# Altium integrated library PCB_Project.IntLib: 24 symbols
Pins are listed as number, name and electrical type; pins without a type are passive.

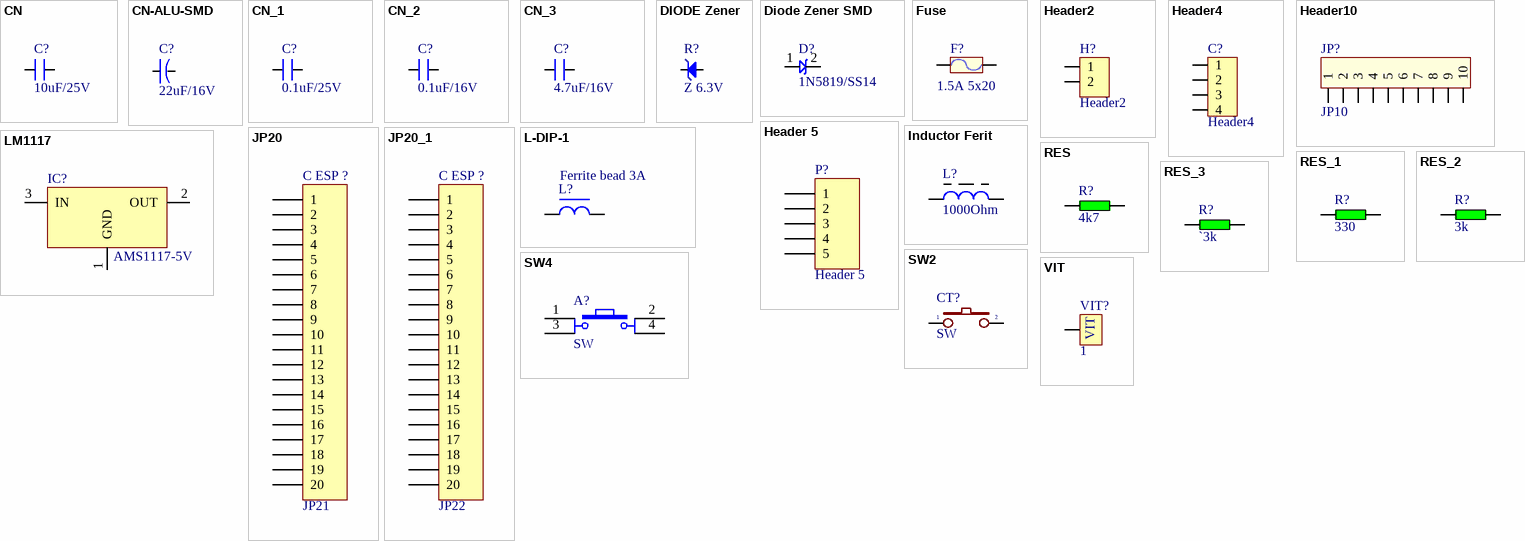
[diagram p0: symbols CN to VIT]

## CN
designator C?, comment 10uF/25V
Value: 33pF
footprint CN1.5
footprint CN1
footprint CN2.5 (Tu pin to pin 250mil)
footprint CN3 (Cap np W 0.3)
footprint CN-SMD-0603
footprint CN-SMD-0805
footprint CN-SMD-0402
footprint CN-SMD-1206
footprint CN-SMD-2520 (TOKO INDUCTOR DFE252012 SERIES)
footprint CN-SMD-3225 (Chip Capacitor, Body 3.2x2.5mm, IPC Medium Density)
footprint CN2-T
footprint CN2-G
footprint CN0.8
footprint CN1-TA
footprint CN2-B
footprint CN2-LT
footprint CN2-O
footprint CN2-R
footprint CN2.5-BR (Tu pin to pin 250mil)
footprint CN2.5-R (Tu pin to pin 250mil)
footprint CN2.5-RV (Tu pin to pin 250mil)
footprint CN3.5 (Cap np W 0.3)
footprint CN4
footprint CN7 (Cap np W 0.3)
footprint CN3-B (Cap np W 0.3)
footprint CN7-B (Cap np W 0.3)
footprint CN7-N (Cap np W 0.3)
footprint CN7-Y (Cap np W 0.3)
footprint CN15 (Cap np W 0.3)
footprint Tu 0805 (Compoment SMD 80x50mil)
footprint CN-SMD-0805
pins: 1, 2

## CN-ALU-SMD
designator C?, comment 22uF/16V
Polarized Capacitor (Axial); Published: 8-Jun-2000; LatestRevisionDate: 17-Jul-2002; LatestRevisionNote: Re-released for DXP Platform.; PackageReference: POLAR0.8; Publisher: Altium Limited
footprint CAP-ALU-SMD-4.5x5x1.4
footprint CAP-ALU-SMD-5x5.5x1.4
footprint CAP-ALU-SMD-5.5x5.5
footprint CAP-ALU-SMD-6.3x7.7x2.2
footprint CAP-ALU-SMD-C
footprint CAP-ALU-SMD-D
footprint CAP-ALU-SMD-F
footprint CAP-ALU-SMD-G
footprint CAP-ALU-SMD-H
footprint CAP-ALU-SMD-J
footprint CAP-ALU-SMD-K
footprint CAP-ALU-SMD-5.5x5.5
pins: 1, 2
1 alternate drawing of the same symbol

## CN_1
designator C?, comment 0.1uF/25V
Value: 33pF
footprint CN1.5
footprint CN1
footprint CN2.5 (Tu pin to pin 250mil)
footprint CN3 (Cap np W 0.3)
footprint CN-SMD-0603
footprint CN-SMD-0805
footprint CN-SMD-0402
footprint CN-SMD-1206
footprint CN-SMD-2520 (TOKO INDUCTOR DFE252012 SERIES)
footprint CN-SMD-3225 (Chip Capacitor, Body 3.2x2.5mm, IPC Medium Density)
footprint CN2-T
footprint CN2-G
footprint CN0.8
footprint CN1-TA
footprint CN2-B
footprint CN2-LT
footprint CN2-O
footprint CN2-R
footprint CN2.5-BR (Tu pin to pin 250mil)
footprint CN2.5-R (Tu pin to pin 250mil)
footprint CN2.5-RV (Tu pin to pin 250mil)
footprint CN3.5 (Cap np W 0.3)
footprint CN4
footprint CN7 (Cap np W 0.3)
footprint CN3-B (Cap np W 0.3)
footprint CN7-B (Cap np W 0.3)
footprint CN7-N (Cap np W 0.3)
footprint CN7-Y (Cap np W 0.3)
footprint CN15 (Cap np W 0.3)
footprint Tu 0805 (Compoment SMD 80x50mil)
footprint CN-SMD-0805
pins: 1, 2

## CN_2
designator C?, comment 0.1uF/16V
Value: 33pF
footprint CN1.5
footprint CN1
footprint CN2.5 (Tu pin to pin 250mil)
footprint CN3 (Cap np W 0.3)
footprint CN-SMD-0603
footprint CN-SMD-0805
footprint CN-SMD-0402
footprint CN-SMD-1206
footprint CN-SMD-2520 (TOKO INDUCTOR DFE252012 SERIES)
footprint CN-SMD-3225 (Chip Capacitor, Body 3.2x2.5mm, IPC Medium Density)
footprint CN2-T
footprint CN2-G
footprint CN0.8
footprint CN1-TA
footprint CN2-B
footprint CN2-LT
footprint CN2-O
footprint CN2-R
footprint CN2.5-BR (Tu pin to pin 250mil)
footprint CN2.5-R (Tu pin to pin 250mil)
footprint CN2.5-RV (Tu pin to pin 250mil)
footprint CN3.5 (Cap np W 0.3)
footprint CN4
footprint CN7 (Cap np W 0.3)
footprint CN3-B (Cap np W 0.3)
footprint CN7-B (Cap np W 0.3)
footprint CN7-N (Cap np W 0.3)
footprint CN7-Y (Cap np W 0.3)
footprint CN15 (Cap np W 0.3)
footprint CN-SMD-0805
pins: 1, 2

## CN_3
designator C?, comment 4.7uF/16V
Value: 33pF
footprint CN1.5
footprint CN1
footprint CN2.5 (Tu pin to pin 250mil)
footprint CN3 (Cap np W 0.3)
footprint CN-SMD-0603
footprint CN-SMD-0805
footprint CN-SMD-0402
footprint CN-SMD-1206
footprint CN-SMD-2520 (TOKO INDUCTOR DFE252012 SERIES)
footprint CN-SMD-3225 (Chip Capacitor, Body 3.2x2.5mm, IPC Medium Density)
footprint CN2-T
footprint CN2-G
footprint CN0.8
footprint CN1-TA
footprint CN2-B
footprint CN2-LT
footprint CN2-O
footprint CN2-R
footprint CN2.5-BR (Tu pin to pin 250mil)
footprint CN2.5-R (Tu pin to pin 250mil)
footprint CN2.5-RV (Tu pin to pin 250mil)
footprint CN3.5 (Cap np W 0.3)
footprint CN4
footprint CN7 (Cap np W 0.3)
footprint CN3-B (Cap np W 0.3)
footprint CN7-B (Cap np W 0.3)
footprint CN7-N (Cap np W 0.3)
footprint CN7-Y (Cap np W 0.3)
footprint CN15 (Cap np W 0.3)
footprint CN-SMD-0805
pins: 1, 2

## DIODE Zener
designator R?, comment Z 6.3V
Zenner 4.8V
footprint DIO-0.5A-SMALL (Diode muoi, W 80mil, L 300mil)
footprint DIO-1A
footprint DIO-1A-SMALL (Diode 1A, W 100mil, L 350mil)
footprint DIO-1AN (Diode 1A, W 100mil, L 150mil)
footprint DIO-2A (Diode 2A, W 150mil, L 450mil)
footprint DIO-2A - LONG (Diode 2A, W 150mil, L 450mil)
footprint DIO-1A-ZEN (Diode 1A, W 100mil, L 350mil)
footprint DIO-2A-ZEN
footprint DIODE_ZENER_SMD
footprint 1N4148_SMD
pins: 1 A, 2 K

## Diode Zener SMD
designator D?, comment 1N5819/SS14
footprint DIO-SMD-106
footprint DIO-SMD-123
footprint DIO-SMD-214AB (Diode 3A SMD)
footprint DIO-SMD-214AC (Diode 2A SMD)
footprint DIO-SMD-4148
footprint DIO-SMD-A
footprint DIO-SMD-B (Magnetic-Core Inductor with Winding Polarity Marking; 2 Leads)
footprint DIO-SMD-SS34 (Copy-From-Instek-Lib)
footprint DIO-SMD-106
footprint SMA
pins: 1, 2

## Fuse
designator F?, comment 1.5A 5x20
Fuse; Designed by: VanDungEvn; Value: Fuse
footprint Fuse4 (FUSEHOLDER BLOCKS - PCB - CLIP COVER - THT - WR-FSH)
footprint Fuse1
footprint FUSE2 (De Fuse)
footprint Fuse5 (PCB - Clip Cover - THR)
footprint Fuse3 (FUSEHOLDER BLOCKS - PCB - CLIP COVER - THT - WR-FSH)
footprint Fuse6 (FUSEHOLDER BLOCKS - PCB - CLIP COVER - THT - WR-FSH)
footprint Fuse7 (FUSEHOLDER BLOCKS - PCB - CLIP COVER - THT - WR-FSH)
footprint Fuse8 (WR-FSH Shocksafe Fuseholder-PCB-Turn and Lock Cover-THT)
footprint Fuse9 (WR-FSH Shocksafe Fuseholder-PCB-Turn and Lock Cover-THT)
footprint C-SE-7,5x10x9x5x4 (Film Capacitors, 2-Leads, Body 7,5x10x9x5)
footprint RES-SMD-1812 (Chip Capacitor, Body 3.2x2.5mm, IPC Medium Density)
footprint RES-SMD-1812 (Chip Capacitor, Body 3.2x2.5mm, IPC Medium Density)
pins: 1, 2

## Header2
designator H?
Header IDC, 2 x 1 Pin Vertical 2.54mm Pitch (Non-Boxed, Male); Manufacturer: W¨¹rth Elektronik eiSos GmbH; partNo: 613002143121; ComponentLink1 Description: Manufacturer; ComponentLink2 Description: Datasheet; NoPins: 02; Created Date: 29 March 2013; ComponentLink1URL: http://www.we-online.com; ComponentLink2URL: http://katalog.we-online.de/em/datasheet/6130xx143121.pdf; Created by: Karrer Zheng
footprint HDR2 (Connector; Header; 2 Position)
footprint Header2 (CON2)
footprint KF2-3.5 (3,50mm - modular - blue - Horizontal wire entry - Pressure clamp - 8,4mm height - 02p)
pins: 1, 2

## Header4
designator C?
Header IDC, 4 x 1 Pin Vertical 2.54mm Pitch (Non-Boxed, Male); Manufacturer: W¨¹rth Elektronik eiSos GmbH; partNo: 613002143121; ComponentLink1 Description: Manufacturer; ComponentLink2 Description: Datasheet; NoPins: 02; Created Date: 29 March 2013; ComponentLink1URL: http://www.we-online.com; ComponentLink2URL: http://katalog.we-online.de/em/datasheet/6130xx143121.pdf; Created by: Karrer Zheng
footprint HDR4 (Connector; Header; 4 Position)
footprint Header4 (CON4)
footprint JP4-C1T (4 row, straight, gold plating)
pins: 1, 2, 3, 4

## Header10
designator JP?, comment JP10
Connector 10; Value: Connector 10
footprint Header10 (CON10)
footprint JP10-C1T (10 row, straight, gold plating)
pins: 1, 2, 3, 4, 5, 6, 7, 8, 9, 10

## Header 5
designator P?
Header, 5-Pin; LatestRevisionDate: 17-Jul-2002; LatestRevisionNote: Re-released for DXP Platform.; Publisher: Altium Limited
footprint HDR1X5 (Connector; Header; 5 Position)
signal-integrity model Connector
footprint JP5-C1T (5 row, straight, gold plating)
pins: 1, 2, 3, 4, 5

## Inductor Ferit
designator L?, comment 1000Ohm
Inductor; Value: 150 mH
footprint L/0.4 (Inductor , 2 Pin, L 350mil, W 150 mil)
footprint L01 (Inductor)
footprint XL
footprint L-DIP-M-6.0 (THT Inductor, 2-Leads, Body 6,0  mm)
footprint L-DIP-M-6.0 (THT Inductor, 2-Leads, Body 6,0  mm)
pins: 1, 2

## JP20
designator C ESP ?, comment JP21
WR-PHD 2.54 mm Angled Socket Header; Manufacturer: W¨¹rth Elektronik eiSos GmbH; partNo: 613020143121; ComponentLink1 Description: Manufacturer; ComponentLink2 Description: Datasheet; NoPins: 20; Created Date: 29 March 2013; ComponentLink1URL: http://www.we-online.com; ComponentLink2URL: http://katalog.we-online.de/em/datasheet/6130xx143121.pdf; Created by: Karrer Zheng
footprint JP20-C1T (20 row, straight, gold plating)
footprint JP20-C1C (20p 1 row Right angle)
footprint JP20-D1T (20 pins, 1 row, straight, gold plating)
footprint JP20-C1T (20 row, straight, gold plating)
footprint JP20-C1T (20 row, straight, gold plating)
pins: 1, 2, 3, 4, 5, 6, 7, 8, 9, 10, 11, 12, 13, 14, 15, 16, 17, 18, 19, 20

## JP20_1
designator C ESP ?, comment JP22
WR-PHD 2.54 mm Angled Socket Header; Manufacturer: W¨¹rth Elektronik eiSos GmbH; partNo: 613020143121; ComponentLink1 Description: Manufacturer; ComponentLink2 Description: Datasheet; NoPins: 20; Created Date: 29 March 2013; ComponentLink1URL: http://www.we-online.com; ComponentLink2URL: http://katalog.we-online.de/em/datasheet/6130xx143121.pdf; Created by: Karrer Zheng
footprint JP20-C1T (20 row, straight, gold plating)
footprint JP20-C1C (20p 1 row Right angle)
footprint JP20-D1T (20 pins, 1 row, straight, gold plating)
footprint JP20-C1T (20 row, straight, gold plating)
footprint JP20-C1T (20 row, straight, gold plating)
pins: 1, 2, 3, 4, 5, 6, 7, 8, 9, 10, 11, 12, 13, 14, 15, 16, 17, 18, 19, 20

## L-DIP-1
designator L?, comment Ferrite bead 3A
Inductor; Value: 150 mH
footprint L-DIP-M-5.3 (THT Inductor, 2-Leads, Body 5.3  mm)
footprint L-DIP-M-6.0 (THT Inductor, 2-Leads, Body 6,0  mm)
footprint L-DIP-M-7.8 (THT Inductor, 2-Leads, Body 7,8  mm)
footprint L-DIP-M-8 (THT Inductor, 2-Leads, Body 8,0  mm)
footprint L-DIP-M-9.5x5.5 (Body 9.5x5.5mm, 2 leads)
footprint L-DIP-M-9.5x6 (Body 9.5x6mm, 2 leads)
footprint L-DIP-M-10 (THT Inductor, 2-Leads, Body 10,0  mm)
footprint L-DIP-M-10x5 (Body 10x5mm, 2 leads)
footprint L-DIP-M-10.5x5.5 (Body 10.5x5.5mm, 2 leads)
footprint L-DIP-M-11.5x5 (Body 11.5x5mm, 2 leads)
footprint L-DIP-M-12x5 (Body 12x5.5mm, 2 leads)
footprint L-DIP-M-12x5.5 (Body 12x5.5mm, 2 leads)
footprint L-DIP-M-12x6 (Body 12x6mm, 2 leads)
footprint L-DIP-M-13.5x6 (Body 13.5x6mm, 2 leads)
footprint L-DIP-M-13.5x6.5 (Body 13.5x6.5mm, 2 leads)
footprint L-DIP-M-13.5x7 (Body 13.5x7mm, 2 leads)
footprint L-DIP-M-14x7 (Body 14x7mm, 2 leads)
footprint L-DIP-M-16x9 (Body 16x9mm, 2 leads)
footprint L-DIP-M-15x7 (Body 15x7mm, 2 leads)
footprint L-DIP-M-15.5x8 (Body 15.5x8mm, 2 leads)
footprint L-DIP-M-16x8.5 (Body 16x8.5mm, 2 leads)
footprint L-DIP-M-16.5x8.5 (Body 16.5x8.5mm, 2 leads)
footprint L-DIP-M-17.5x8.5 (Body 17.5x8.5mm, 2 leads)
footprint L-DIP-M-17.5x9 (Body 17.5x9mm, 2 leads)
footprint L-DIP-M-17.5x13 (Body 17.5x13mm, 2 leads)
footprint L-DIP-M-18x9 (Body 18x9mm, 2 leads)
footprint L-DIP-M-18.5x8 (Body 17.5x8mm, 2 leads)
footprint L-DIP-M-18.5x8.5 (Body 18.5x8.5mm, 2 leads)
footprint L-DIP-M-18.5x9 (Body 18.5x9.5mm, 2 leads)
footprint L-DIP-M-18.5X9.5 (Body 18.5x9.5mm, 2 leads)
footprint L-DIP-M-19x10.5 (Body 19x10.5mm, 2 leads)
footprint L-DIP-M-25x12 (Body 25x12mm, 2 leads)
footprint L-DIP-M-21x11 (Body 21x11mm, 2 leads)
footprint L-DIP-M-25x11 (Body 25x11mm, 2 leads)
footprint L-DIP-M-26x12 (Body 26x12mm, 2 leads)
footprint L-DIP-M-25x13 (Body 25x13mm, 2 leads)
footprint L-DIP-M-27.5x13 (Body 27.5x13mm, 2 leads)
footprint L-DIP-M-28.5x15 (Body 28.5x15mm, 2 leads)
footprint L-DIP-M-31x13
footprint L-DIP-M-38x17 (Body 38x17mm, 2 leads)
footprint RES-1/2W
footprint RES-1/8W-SMALL (R 1/8W, 2 pin, 200mil)
footprint RES-1W
footprint RES-2W (R2W, 2 pin, 700mil)
footprint CN-SMD-0805
footprint L-DIP-M-6.0 (THT Inductor, 2-Leads, Body 6,0  mm)
pins: 1, 2

## LM1117
designator IC?, comment AMS1117-5V
800mA Low-Dropout Linear Regulator; Creator: Nguyen Ba Bien; Website: http://group3i.net
footprint SOT223
footprint TO220H1 (TO-220 - 1-2-3)
footprint TO220-123 (TO-220 - 1-2-3)
footprint TO220H2 (TO-220 - 1-2-3)
footprint TO220NH (TO-220 - 1-2-3)
footprint TO220H3 (TO-220 1-2-3)
footprint SOT223-4N (SOT223, 4-Leads, Body 6.5x3.5mm, Pitch 2.3mm, Lead Span 7mm, IPC Medium Density)
pins: 1 GND, 2 OUT, 3 IN

## RES
designator R?, comment 4k7
Resistor 1/4W; Value: R1/4W - 1K
footprint SM-1206 (Compoment SMD 120x60mil)
footprint R1/8W (R 1/8W, 2 pin, 300mil)
footprint R1/4W (R 1/4W, 2 Pin, 350mil)
footprint R1/4WD (R 1/4W, 2 Pin, 150mil)
footprint R-0805 (Compoment SMD 80x50mil)
footprint RES-1/4W
footprint SM-0805 (Compoment SMD 80x50mil)
pins: 1, 2

## RES_1
designator R?, comment 330
Resistor 1/4W; Value: R1/4W - 1K
footprint SM-1206 (Compoment SMD 120x60mil)
footprint R1/8W (R 1/8W, 2 pin, 300mil)
footprint R1/4W (R 1/4W, 2 Pin, 350mil)
footprint R1/4WD (R 1/4W, 2 Pin, 150mil)
footprint R-0805 (Compoment SMD 80x50mil)
footprint RES-1/4W
footprint SM-0805 (Compoment SMD 80x50mil)
pins: 1, 2

## RES_2
designator R?, comment 3k
Resistor 1/4W; Value: R1/4W - 1K
footprint SM-1206 (Compoment SMD 120x60mil)
footprint R1/8W (R 1/8W, 2 pin, 300mil)
footprint R1/4W (R 1/4W, 2 Pin, 350mil)
footprint R1/4WD (R 1/4W, 2 Pin, 150mil)
footprint R-0805 (Compoment SMD 80x50mil)
footprint RES-1/4W
footprint SM-0805 (Compoment SMD 80x50mil)
pins: 1, 2

## RES_3
designator R?, comment `3k
Resistor 1/4W; Value: R1/4W - 1K
footprint SM-1206 (Compoment SMD 120x60mil)
footprint R1/8W (R 1/8W, 2 pin, 300mil)
footprint R1/4W (R 1/4W, 2 Pin, 350mil)
footprint R1/4WD (R 1/4W, 2 Pin, 150mil)
footprint R-0805 (Compoment SMD 80x50mil)
footprint RES-1/4W
footprint SM-0805 (Compoment SMD 80x50mil)
pins: 1, 2

## SW2
designator CT?, comment SW
Switch button 2 pin; Value: SW chip 2 pin
footprint SW2 (SW button 2pin, 250x 250 mil)
footprint SW-SMD (Switch SMD type)
pins: 1, 2

## SW4
designator A?, comment SW
Switch button 4 pin; Value: Button chip 4 pin
footprint SW4 (SW button 4pin, 250 x250 mil)
footprint SW4B (SW button 4pin, 450 x 450 mil)
footprint SW4 - SMD (SW button 4pin, 250 x250 mil)
pins: 1, 2, 3, 4

## VIT
designator VIT?, comment 1
Oc Vit
footprint VIT
pins: VIT1 1